# EAGLE library part PINHD-2X25_D (library PINHEADER)
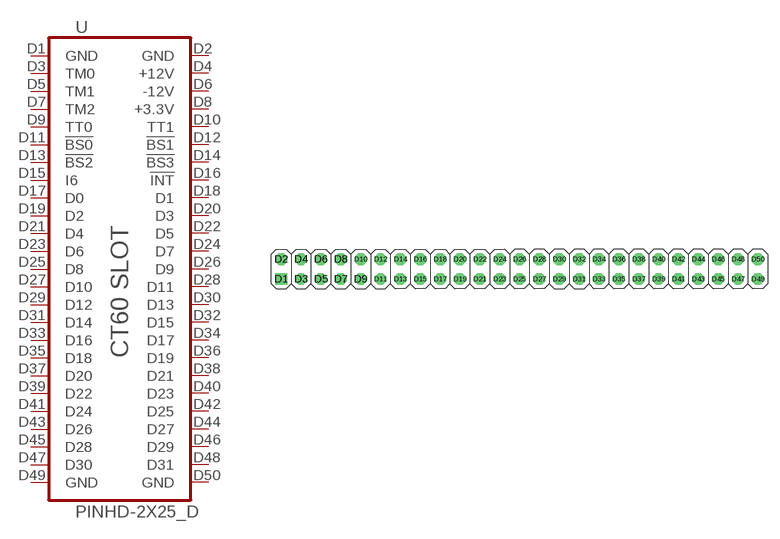
[diagram p5: symbol with the pads of 2X25_D; footprint 2X25_D]

Designator prefix -

## PINHD-2X25_D  [2X25_D]
D1  GND  pas
D2  GND  pas
D3  TM0  pas
D4  +12V  pas
D5  TM1  pas
D6  -12V  pas
D7  TM2  pas
D8  +3.3V  pas
D9  TT0  pas
D10  TT1  pas
D11  !BS0  pas
D12  !BS1  pas
D13  !BS2  pas
D14  !BS3  pas
D15  I6  pas
D16  !INT  pas
D17  D0  pas
D18  D1  pas
D19  D2  pas
D20  D3  pas
D21  D4  pas
D22  D5  pas
D23  D6  pas
D24  D7  pas
D25  D8  pas
D26  D9  pas
D27  D10  pas
D28  D11  pas
D29  D12  pas
D30  D13  pas
D31  D14  pas
D32  D15  pas
D33  D16  pas
D34  D17  pas
D35  D18  pas
D36  D19  pas
D37  D20  pas
D38  D21  pas
D39  D22  pas
D40  D23  pas
D41  D24  pas
D42  D25  pas
D43  D26  pas
D44  D27  pas
D45  D28  pas
D46  D29  pas
D47  D30  pas
D48  D31  pas
D49  GND  pas
D50  GND  pas

## Footprint 2X25_D (pad centres in mm)
PIN HEADER - 2.54
drill 1.016 square: D1 -30.48,-1.27
drill 1.016 octagon: D2 -30.48,1.27; D3 -27.94,-1.27; D4 -27.94,1.27; D5 -25.4,-1.27; D6 -25.4,1.27; D7 -22.86,-1.27; D8 -22.86,1.27; D9 -20.32,-1.27; D10 -20.32,1.27; D11 -17.78,-1.27; D12 -17.78,1.27; D13 -15.24,-1.27; D14 -15.24,1.27; D15 -12.7,-1.27; D16 -12.7,1.27; D17 -10.16,-1.27; D18 -10.16,1.27; D19 -7.62,-1.27; D20 -7.62,1.27; D21 -5.08,-1.27; D22 -5.08,1.27; D23 -2.54,-1.27; D24 -2.54,1.27; D25 0,-1.27; D26 0,1.27; D27 2.54,-1.27; D28 2.54,1.27; D29 5.08,-1.27; D30 5.08,1.27; D31 7.62,-1.27; D32 7.62,1.27; D33 10.16,-1.27; D34 10.16,1.27; D35 12.7,-1.27; D36 12.7,1.27; D37 15.24,-1.27; D38 15.24,1.27; D39 17.78,-1.27; D40 17.78,1.27; D41 20.32,-1.27; D42 20.32,1.27; D43 22.86,-1.27; D44 22.86,1.27; D45 25.4,-1.27; D46 25.4,1.27; D47 27.94,-1.27; D48 27.94,1.27; D49 30.48,-1.27; D50 30.48,1.27